# Altium footprint library CDSOD323-T05LC.PcbLib: 3 footprints
Each footprint in its own frame and in the unit in brackets; x right, y up, seen from the top. Pads: shape width x height; smd on the part's side, far side on the other; paste and mask are expansions set on the pad; w line width, h text height; cw(c..) or ccw(c..) is an arc to the next point about the centre after c.
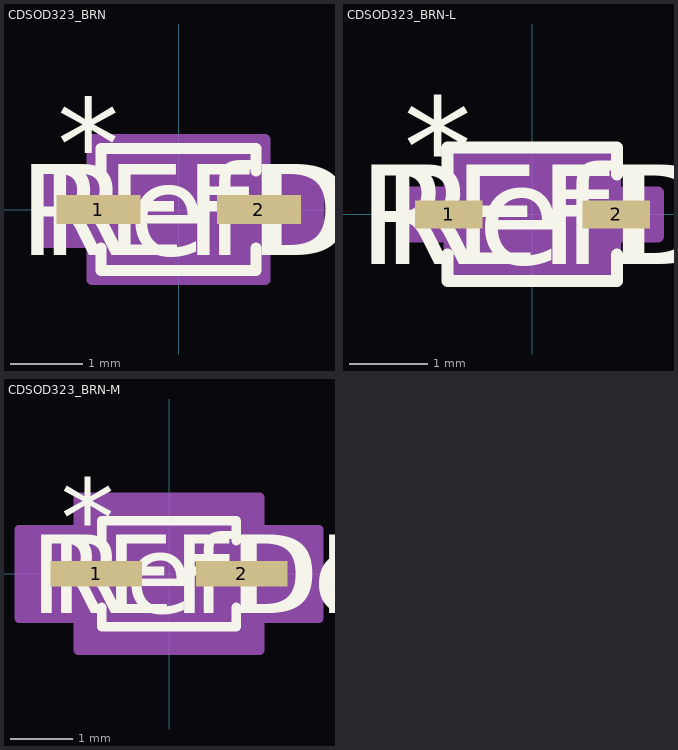
[diagram p0: the footprints below, top view; thin cyan lines are the x and y axes]

## CDSOD323_BRN [mil]
pads (2):
  rect 46x16 smd paste+0 mask+0: 1(-44,0) 2(44,0)
Top Overlay:
  lines w6: -42.5,-21.1 -42.5,-33.5 42.5,-33.5 42.5,-21.1 ; -42.5,21.1 -42.5,33.5 42.5,33.5 42.5,21.1
  text "REFDES" at -87.5,-25 h50
  text "*" at -66.5,11 h50
  text "RefDes" at -75,-25 h50
Mechanical 13:
  lines w0: -12,28.5 ccw(c0,28.5) 12,28.5
  lines w1: -53,-8 -53,8 -37.5,8 -37.5,-8 -53,-8 ; -37.5,-28.5 37.5,-28.5 37.5,28.5 -37.5,28.5 -37.5,-28.5 ; 37.5,-8 37.5,8 53,8 53,-8 37.5,-8
  text "*" at -35,-24.5 h50
  text "RefDes2" at -87.5,-25 h50
Mechanical 15:
  region: -47.5,-18 -77,-18 -77,18 -47.5,18 -47.5,38.5 47.5,38.5 47.5,18 77,18 77,-18 47.5,-18 47.5,-38.5 -47.5,-38.5
  lines w6: -77,-18 -77,18 -47.5,18 -47.5,38.5 47.5,38.5 47.5,18 77,18 77,-18 47.5,-18 47.5,-38.5 -47.5,-38.5 -47.5,-18 -77,-18
3D body "CDSOD323_BRN.step": height 45.12, standoff 0, extent -52.99,-28.5 52.99,28.5

## CDSOD323_BRN-L [mil]
pads (2):
  rect 34x14 smd paste+0 mask+0: 1(-42,0) 2(42,0)
Top Overlay:
  lines w6: -42.5,-20.1 -42.5,-33.5 42.5,-33.5 42.5,-20.1 ; -42.5,20.1 -42.5,33.5 42.5,33.5 42.5,20.1
  text "REFDES" at -87.5,-25 h50
  text "*" at -64.5,9 h50
  text "RefDes" at -75,-25 h50
Mechanical 13:
  lines w0: -12,28.5 ccw(c0,28.5) 12,28.5
  lines w1: -53,-8 -53,8 -37.5,8 -37.5,-8 -53,-8 ; -37.5,-28.5 37.5,-28.5 37.5,28.5 -37.5,28.5 -37.5,-28.5 ; 37.5,-8 37.5,8 53,8 53,-8 37.5,-8
  text "*" at -35,-24.5 h50
  text "RefDes2" at -87.5,-25 h50
Mechanical 15:
  region: -41.5,-11 -63,-11 -63,11 -41.5,11 -41.5,32.5 41.5,32.5 41.5,11 63,11 63,-11 41.5,-11 41.5,-32.5 -41.5,-32.5
  lines w6: -63,-11 -63,11 -41.5,11 -41.5,32.5 41.5,32.5 41.5,11 63,11 63,-11 41.5,-11 41.5,-32.5 -41.5,-32.5 -41.5,-11 -63,-11
3D body "CDSOD323_BRN.step": height 45.12, standoff 0, extent -52.99,-28.5 52.99,28.5

## CDSOD323_BRN-M [mil]
pads (2):
  rect 58x16 smd paste+0 mask+0: 1(-46,0) 2(46,0)
Top Overlay:
  lines w6: -42.5,-21.1 -42.5,-33.5 42.5,-33.5 42.5,-21.1 ; -42.5,21.1 -42.5,33.5 42.5,33.5 42.5,21.1
  text "REFDES" at -87.5,-25 h50
  text "*" at -68.5,11 h50
  text "RefDes" at -75,-25 h50
Mechanical 13:
  lines w0: -12,28.5 ccw(c0,28.5) 12,28.5
  lines w1: -53,-8 -53,8 -37.5,8 -37.5,-8 -53,-8 ; -37.5,-28.5 37.5,-28.5 37.5,28.5 -37.5,28.5 -37.5,-28.5 ; 37.5,-8 37.5,8 53,8 53,-8 37.5,-8
  text "*" at -35,-24.5 h50
  text "RefDes2" at -87.5,-25 h50
Mechanical 15:
  region: -57.5,-28 -95,-28 -95,28 -57.5,28 -57.5,48.5 57.5,48.5 57.5,28 95,28 95,-28 57.5,-28 57.5,-48.5 -57.5,-48.5
  lines w6: -95,-28 -95,28 -57.5,28 -57.5,48.5 57.5,48.5 57.5,28 95,28 95,-28 57.5,-28 57.5,-48.5 -57.5,-48.5 -57.5,-28 -95,-28
3D body "CDSOD323_BRN.step": height 45.12, standoff 0, extent -52.99,-28.5 52.99,28.5